# Altium schematic symbol library M4_Винт_с_шайбами.SchLib: 1 symbol
Pins are listed as number, name and electrical type; pins without a type are passive.

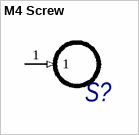
[diagram p0: symbol M4 Screw]

## M4 Screw
designator S?  (value not drawn)
Латунный винт М4 с шайбами
footprint M4 Screw (Screw with nut)
pins: 1 (in) "Информационный вход Х6"